# Altium schematic symbol library CRCW060315K0FKEA.SchLib: 2 symbols
Pins are listed as number, name and electrical type; pins without a type are passive.

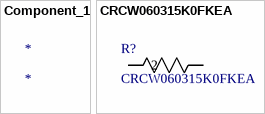
[diagram p0: symbols Component_1 to CRCW060315K0FKEA]

## Component_1
designator *

## CRCW060315K0FKEA
designator R?
No Description Available; Mfr_Name: Vishay; Copyright: Copyright (C) 2022 Ultra Librarian. All rights reserved.; Manufacturer_Part_Number: CRCW060315K0FKEA; RefDes: RefDes; Type: DEV
footprint RES_CRCW_0603
pins: 1, 2